# EAGLE library part ICESTAMP1K (library icestamp1k)
iCEStamp1K. Stamp size iCE40LP1K FPGA board. With on board Vcore (1v2) regulator. Castellated holes allow you to solder this board directly on the larger PCB. This way you can reduce the cost of PCB production.
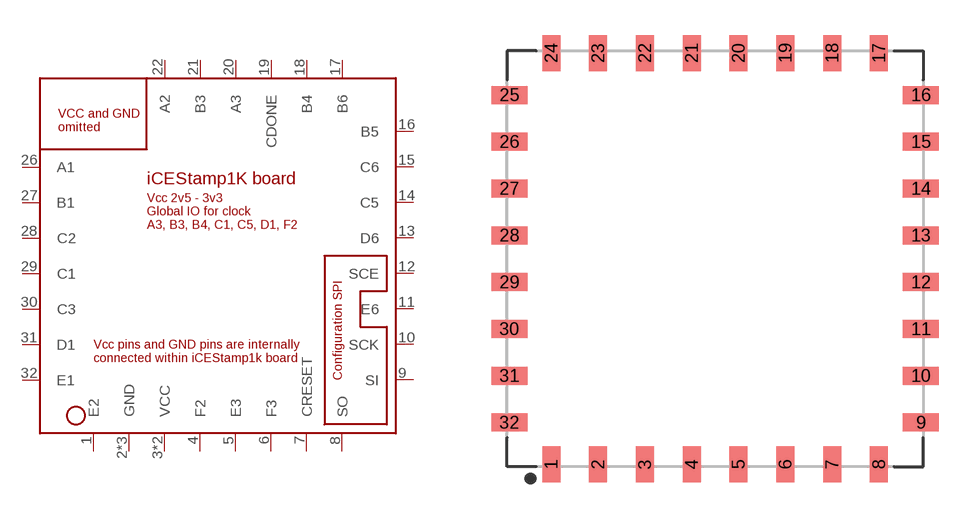
[diagram p0: symbol with the pads of QFN200P1777X1777X200-32N; footprint QFN200P1777X1777X200-32N]

Designator prefix -

## ICESTAMP1K  [QFN200P1777X1777X200-32N]
1  E2
2  GND
3  VCC
4  F2
5  E3
6  F3
7  CRESET
8  SO
9  SI
10  SCK
11  E6
12  SCE
13  D6
14  C5
15  C6
16  B5
17  B6
18  B4
19  CDONE
20  A3
21  B3
22  A2
23  GND
24  GND
25  VCC
26  A1
27  B1
28  C2
29  C1
30  C3
31  D1
32  E1

## Footprint QFN200P1777X1777X200-32N (pad centres in mm)
32-QFN, 2.00 mm pitch, 17.77 X 17.77 X 2.00 mm body 32-pin QFN package with 2.00 mm pitch with body size 17.77 X 17.77 X 2.00 mm
smd 0.77 x 1.535: 1 -7,-8.791; 2 -5,-8.791; 3 -3,-8.791; 4 -1,-8.791; 5 1,-8.791; 6 3,-8.791; 7 5,-8.791; 8 7,-8.791; 17 7,8.791; 18 5,8.791; 19 3,8.791; 20 1,8.791; 21 -1,8.791; 22 -3,8.791; 23 -5,8.791; 24 -7,8.791
smd 1.535 x 0.77: 9 8.791,-7; 10 8.791,-5; 11 8.791,-3; 12 8.791,-1; 13 8.791,1; 14 8.791,3; 15 8.791,5; 16 8.791,7; 25 -8.791,7; 26 -8.791,5; 27 -8.791,3; 28 -8.791,1; 29 -8.791,-1; 30 -8.791,-3; 31 -8.791,-5; 32 -8.791,-7